# Altium schematic symbol library NNLightSwitcher.SchLib: 97 symbols (part 2 of 3)
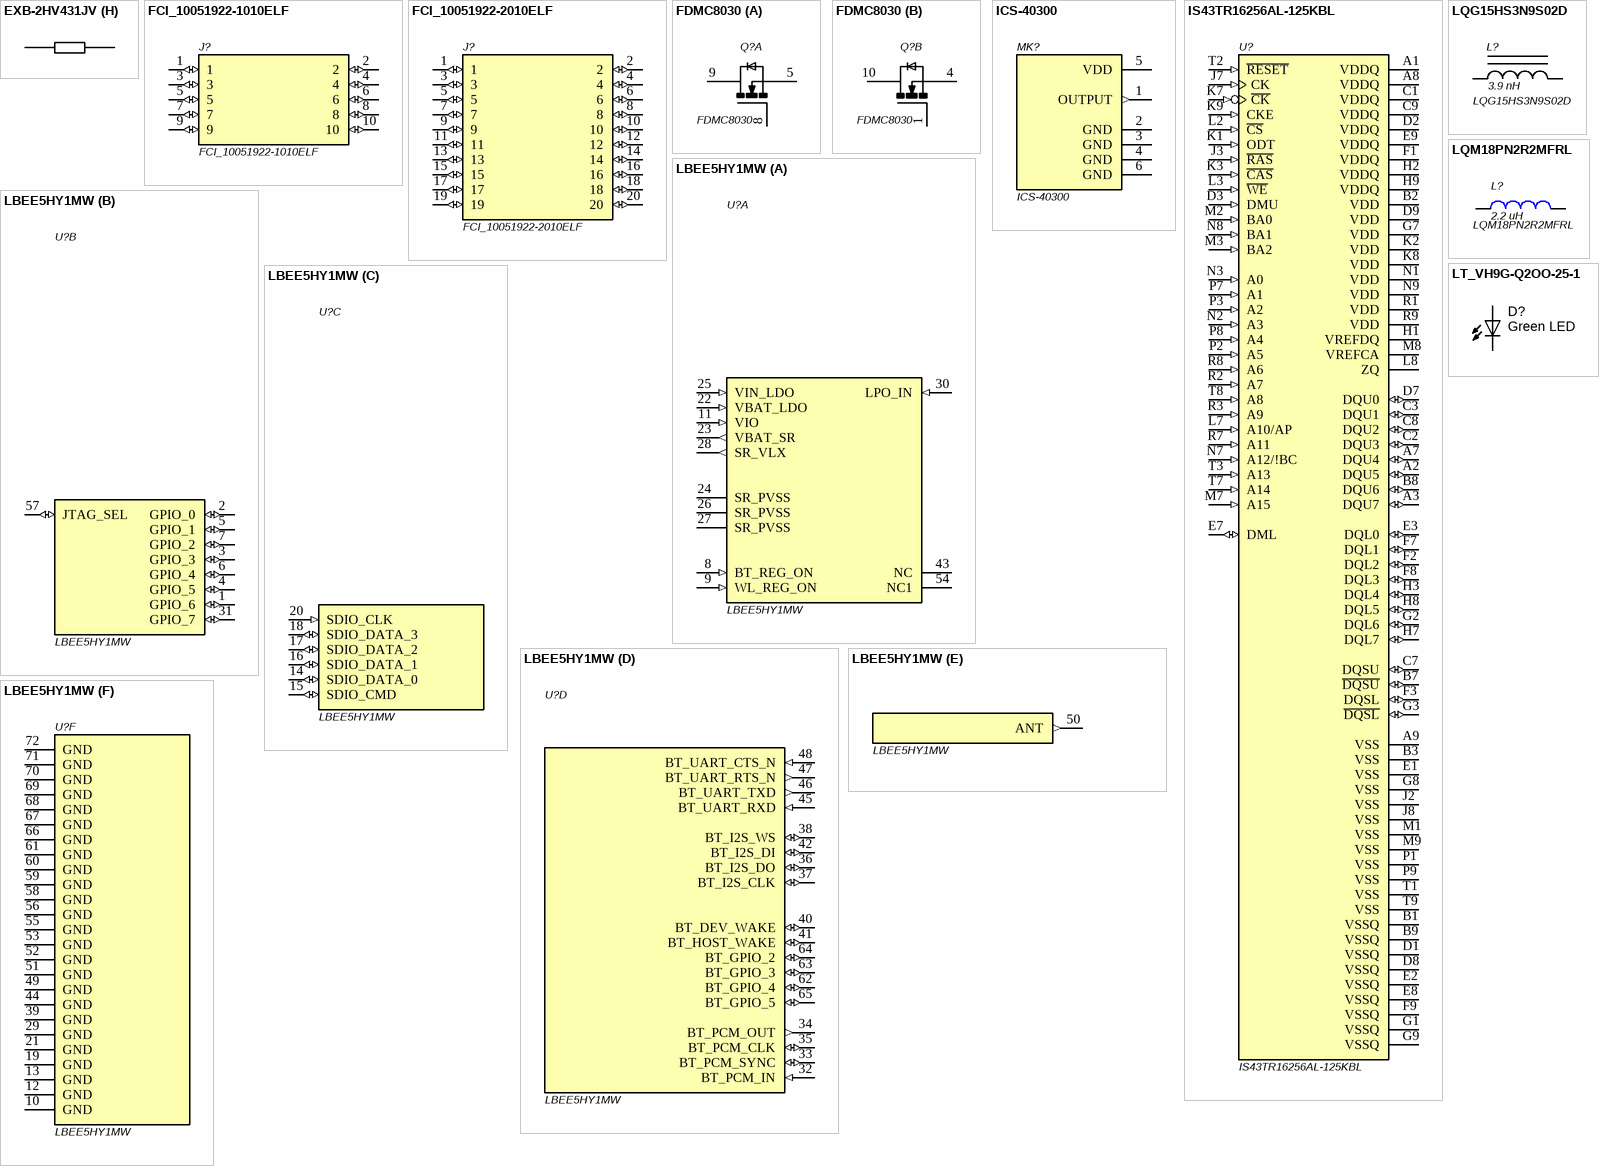
[diagram p5: symbols EXB-2HV431JV to LT_VH9G-Q2OO-25-1]

## ICS-40300
designator MK?
High SPL Analog MEMS Microphone with Extended Low Feq Response; Manufacturer 1: TDK InvenSense; Shape: Rectangular; Direction: Omnidirectional; Impedance: 200R; Operating Supply Current: 250uA; Max Supply Voltage: 3.63V; Min Supply Voltage: 1.5V; Supplier 1: Digi-Key; Manufacturer Part Number 1: ICS-40300; Stock 1: 3930; Pricing 1: 1=3,00000, 10=2,48900, 25=2,29760, 50=2,15880, 100=2,02510, 500=1,73498, 1000=1,71600 (USD); RoHS: Yes; Packaging: Tape and Reel; Termination: Solder; Output Type: Analog; Length: 4.72mm; Height: 3.5mm; Width: 3.76mm; Lead Free: Lead Free; ComponentLink1URL: http://43zrtwysvxb2gf29r5o0athu.wpengine.netdna-cdn.com/wp-content/uploads/2015/02/DS-ICS-40300-00-v1.1.pdf?src-supplier=Avnet+Asia; ComponentLink1Description: http://43zrtwysvxb2gf29r5o0athu.wpengine.netdna-cdn.com/wp-content/uploads/2015/02/DS-ICS-40300-00-v1.1.pdf?src-supplier=Avnet+Asia; ComponentLink2URL: https://www.invensense.com/wp-content/uploads/2015/02/DS-ICS-40300-00-v1.1.pdf?src-supplier=Digi-Key; ComponentLink2Description: https://www.invensense.com/wp-content/uploads/2015/02/DS-ICS-40300-00-v1.1.pdf?src-supplier=Digi-Key; Supplier Part Number 1: 1428-1027-1-ND
footprint *MIC_ICS-40300
pins: 1 OUTPUT (out), 2 GND (power), 3 GND (power), 4 GND (power), 5 VDD (power), 6 GND (power)

## IS43TR16256AL-125KBL
designator U?
4G, 1.35V, DDR3L, 256Mx16, 1600MT/s @ 11-11-11, 96 ball BGA _9mm x13mm_ RoHS; Manufacturer 1: ISSI; Max Frequency: 800MHz; Max Supply Voltage: 1.45V; Min Supply Voltage: 1.283V; Interface: Parallel; Memory Type: RAM,DDR3 SDRAM; Data Bus Width: 16b; Memory Size: 4Gb; Access Time: 255ps; Supplier 1: Digi-Key; Manufacturer Part Number 1: IS43TR16256AL-125KBL; Stock 1: 6597; Pricing 1: 1=8,90000, 10=8,18800, 25=8,01840, 50=7,99000, 190=7,16784, 380=6,95047, 570=6,61028, 1140=6,37875 (USD); RoHS: Yes; Case/Package: TFBGA; Number of Pins: 96; Min Operating Temperature: 0°C; Max Operating Temperature: 70°C; Package Quantity: 190; Packaging: Tray; Frequency: 800MHz; ComponentLink1URL: https://datasheet.ciiva.com/18617/43-46tr16256a-85120al-18617927.pdf?src-supplier=Digi-Key; ComponentLink1Description: https://datasheet.ciiva.com/18617/43-46tr16256a-85120al-18617927.pdf?src-supplier=Digi-Key; Supplier 2: Mouser; Manufacturer 2: ISSI; Manufacturer Part Number 2: IS43TR16256AL-125KBL; Stock 2: 3561; Pricing 2: 1=8,90000, 10=8,19000, 25=8,00000, 50=8,00000, 100=7,17000, 250=6,96000, 500=6,61000, 1000=6,61000, 10000=6,61000 (USD); Supplier Part Number 1: 706-1207-ND; Supplier Part Number 2: 870-43T16256AL125KBL
footprint *BGA96C80P9X16_900X1300X120_IS43TR16256AL-125KBL(Primary)
pins: A1 VDDQ (power), A2 DQU5 (io), A3 DQU7 (io), A7 DQU4 (io), A8 VDDQ (power), A9 VSS (power), B1 VSSQ (power), B2 VDD (power), B3 VSS (power), B7 ~{DQSU} (io), B8 DQU6 (io), B9 VSSQ (power), C1 VDDQ (power), C2 DQU3 (io), C3 DQU1 (io), C7 DQSU (io), C8 DQU2 (io), C9 VDDQ (power), D1 VSSQ (power), D2 VDDQ (power), D3 DMU (in), D7 DQU0 (io), D8 VSSQ (power), D9 VDD (power), E1 VSS (power), E2 VSSQ (power), E3 DQL0 (io), E7 DML (io), E8 VSSQ (power), E9 VDDQ (power), F1 VDDQ (power), F2 DQL2 (io), F3 DQSL (io), F7 DQL1 (io), F8 DQL3 (io), F9 VSSQ (power), G1 VSSQ (power), G2 DQL6 (io), G3 ~{DQSL} (io), G7 VDD (power), G8 VSS (power), G9 VSSQ (power), H1 VREFDQ (power), H2 VDDQ (power), H3 DQL4 (io), H7 DQL7 (io), H8 DQL5 (io), H9 VDDQ (power), J2 VSS (power), J3 ~{RAS} (in), J7 CK (in), J8 VSS (power), K1 ODT (in), K2 VDD (power), K3 ~{CAS} (in), K7 ~{CK} (in), K8 VDD (power), K9 CKE (in), L2 ~{CS} (in), L3 ~{WE} (in), L7 A10/AP (in), L8 ZQ (power), M1 VSS (power), M2 BA0 (in), M3 BA2 (in), M7 A15 (in), M8 VREFCA (power), M9 VSS (power), N1 VDD (power), N2 A3 (in), N3 A0 (in), N7 A12/!BC (in), N8 BA1 (in), N9 VDD (power), P1 VSS (power), P2 A5 (in), P3 A2 (in), P7 A1 (in), P8 A4 (in), P9 VSS (power), R1 VDD (power), R2 A7 (in), R3 A9 (in), R7 A11 (in), R8 A6 (in), R9 VDD (power), T1 VSS (power), T2 ~{RESET} (in), T3 A13 (in), T7 A14 (in), T8 A8 (in), T9 VSS (power)

## LBEE5HY1MW
designator U?
Dual Band WiFi 11a/b/g/n/ac with Bluetooth 5.0 Module; Manufacturer 1: Murata; Manufacturer Part Number 1: LBEE5HY1MW-230; Supplier 1: Digi-Key; Stock 1: 946; Pricing 1: 1=15,66000, 10=14,16500, 25=13,04640, 100=11,92800, 250=11,18252, 500=10,43700, 1000=9,91515 (USD); RoHS: No; Supplier 2: Mouser; Manufacturer 2: Murata; Manufacturer Part Number 2: LBEE5HY1MW-230; Stock 2: 212; Pricing 2: 1=15,62000, 10=14,20000, 25=13,14000, 50=13,14000, 100=12,43000, 250=10,65000, 1000=10,65000, 10000=10,65000 (USD); Supplier Part Number 1: 490-18383-1-ND; Supplier Part Number 2: 81-LBEH5HY1MW-230
footprint 1MW LGA
part A pins: 8 BT_REG_ON (in), 9 WL_REG_ON (in), 11 VIO (in), 22 VBAT_LDO (in), 23 VBAT_SR (out), 24 SR_PVSS, 25 VIN_LDO (in), 26 SR_PVSS, 27 SR_PVSS, 28 SR_VLX (out), 30 LPO_IN (in), 43 NC, 54 NC1
part B pins: 1 GPIO_6 (io), 2 GPIO_0 (io), 3 GPIO_3 (io), 4 GPIO_5 (io), 5 GPIO_1 (io), 6 GPIO_4 (io), 7 GPIO_2 (io), 31 GPIO_7 (io), 57 JTAG_SEL (io)
part C pins: 14 SDIO_DATA_0 (io), 15 SDIO_CMD (io), 16 SDIO_DATA_1 (io), 17 SDIO_DATA_2 (io), 18 SDIO_DATA_3 (io), 20 SDIO_CLK (in)
part D pins: 32 BT_PCM_IN (in), 33 BT_PCM_SYNC (io), 34 BT_PCM_OUT (out), 35 BT_PCM_CLK (io), 36 BT_I2S_DO (io), 37 BT_I2S_CLK (io), 38 BT_I2S_WS (io), 40 BT_DEV_WAKE (io), 41 BT_HOST_WAKE (io), 42 BT_I2S_DI (io), 45 BT_UART_RXD (in), 46 BT_UART_TXD (out), 47 BT_UART_RTS_N (out), 48 BT_UART_CTS_N (in), 62 BT_GPIO_4 (io), 63 BT_GPIO_3 (io), 64 BT_GPIO_2 (io), 65 BT_GPIO_5 (io)
part E pins: 50 ANT (out)
part F pins: 10 GND, 12 GND, 13 GND, 19 GND, 21 GND, 29 GND, 39 GND, 44 GND, 49 GND, 51 GND, 52 GND, 53 GND, 55 GND, 56 GND, 58 GND, 59 GND, 60 GND, 61 GND, 66 GND, 67 GND, 68 GND, 69 GND, 70 GND, 71 GND, 72 GND

## LQG15HS3N9S02D
designator L?  value 3.9 nH
Inductor, Multilayer, Air Core, 3.9 nH, 0.75 A, 0.14 ohm, SMD; Manufacturer 1: Murata; Current Rating: 300mA; Shielding: Unshielded; Q Factor: 8; Self Resonant Frequency: 6GHz; Inductance: 3.9nH; DC Resistance (DCR): 180mR; Test Frequency: 100MHz; ComponentLink1Description: Datasheet link; ComponentLink1URL: https://search.murata.co.jp/Ceramy/image/img/P02/JELF243B-0010.pdf; Supplier 1: Digi-Key; Manufacturer Part Number 1: LQG15HS3N9S02D; Stock 1: 48113; Pricing 1: 1=0,10000, 10=0,06100, 100=0,04040, 500=0,03366, 1000=0,02827, 2500=0,02423 (USD); RoHS: Yes; Mount: Surface Mount; Case/Package: 0402; Core Material: Air; Case Code (Metric): 1005; Case Code (Imperial): 0402; Min Operating Temperature: -55°C; Max Operating Temperature: 125°C; Package Quantity: 10000; Packaging: Tape and Reel; Max DC Current: 300mA; Termination: SMD/SMT; DC Current: 300mA; Military Standard: Not; Length: 1mm; Height: 0.5mm; Width: 0.02inch; Height - Seated (Max): 0.022inch; Depth: 0.55mm; Radiation Hardening: No; Lead Free: Lead Free; ComponentLink2URL: https://datasheet.ciiva.com/11799/0900766b8090d685-11799093.pdf?src-supplier=RSComponents; ComponentLink2Description: https://datasheet.ciiva.com/11799/0900766b8090d685-11799093.pdf?src-supplier=RSComponents; ComponentLink3URL: https://datasheet.ciiva.com/1038/l0075s0083lqg15hs-1038128.pdf?src-supplier=Digi-Key; ComponentLink3Description: https://datasheet.ciiva.com/1038/l0075s0083lqg15hs-1038128.pdf?src-supplier=Digi-Key; ComponentLink4URL: https://datasheet.ciiva.com/1038/l0075s0083lqg15hs-1038129.pdf?src-supplier=Digi-Key; ComponentLink4Description: https://datasheet.ciiva.com/1038/l0075s0083lqg15hs-1038129.pdf?src-supplier=Digi-Key; ComponentLink5URL: https://datasheet.ciiva.com/8509/l0075s0083lqg15hs-8509708.pdf?src-supplier=Avnet; ComponentLink5Description: https://datasheet.ciiva.com/8509/l0075s0083lqg15hs-8509708.pdf?src-supplier=Avnet; ComponentLink6URL: https://datasheet.ciiva.com/1038/l0075s0083lqg15hs-1038127.pdf?src-supplier=Digi-Key; ComponentLink6Description: https://datasheet.ciiva.com/1038/l0075s0083lqg15hs-1038127.pdf?src-supplier=Digi-Key; Supplier 2: Mouser; Manufacturer 2: Murata; Manufacturer Part Number 2: LQG15HS3N9S02D; Stock 2: 63763; Pricing 2: 1=0,10000, 10=0,06100, 50=0,06100, 100=0,04000, 500=0,03400, 1000=0,02800, 2500=0,02100, 10000=0,01900, 20000=0,01800, 50000=0,01700 (USD); Supplier Part Number 1: 490-2617-1-ND; Supplier Part Number 2: 81-LQG15HS3N9S02D
footprint *0603
pins: 1, 2

## LQM18PN2R2MFRL
designator L?  value 2.2 uH
Inductor Power Chip Shielded Multi-Layer 2.2uH 20% 1MHz Ferrite 750mA 375mOhm DCR 0603 T/R; Manufacturer 1: Murata; Self Resonant Frequency: 70MHz; DC Resistance (DCR): 375mR; Supplier 1: Digi-Key; Manufacturer Part Number 1: LQM18PN2R2MFRL; Stock 1: 15081; Pricing 1: 1=0,42000, 10=0,37000, 100=0,25430, 500=0,21728, 1000=0,16643 (USD); RoHS: Yes; Mount: Surface Mount; Case/Package: 0603; Weight: 0.000141oz; Core Material: Ferrite; Case Code (Metric): 1608; Case Code (Imperial): 0603; Min Operating Temperature: -40°C; Max Operating Temperature: 85°C; Package Quantity: 4000; Packaging: Tape and Reel; Tolerance: 20%; Current Rating: 750mA; Shielding: Shielded; Inductance: 2.2uH; Test Frequency: 1MHz; DC Current: 750mA; Military Standard: Not; Termination: SMD/SMT; Max DC Current: 750mA; Length: 0.063inch; Height: 0.8mm; Width: 0.031inch; Height - Seated (Max): 0.037inch; Depth: 0.95mm; Lead Free: Lead Free; ComponentLink1URL: https://datasheet.ciiva.com/29691/o05e-29691382.pdf?src-supplier=Digi-Key; ComponentLink1Description: https://datasheet.ciiva.com/29691/o05e-29691382.pdf?src-supplier=Digi-Key; Supplier 2: Mouser; Manufacturer 2: Murata; Manufacturer Part Number 2: LQM18PN2R2MFRL; Stock 2: 12449; Pricing 2: 1=0,42000, 10=0,37000, 50=0,37000, 100=0,25400, 500=0,21700, 1000=0,16600, 4000=0,13700, 8000=0,12500, 10000=0,12500, 24000=0,12100, 48000=0,11500 (USD); Supplier Part Number 1: 490-10764-1-ND; Supplier Part Number 2: 81-LQM18PN2R2MFRL
footprint *0603
pins: 1, 2

## LT_VH9G-Q2OO-25-1
designator D?, comment Green LED
LED Uni-Color Green 525nm 2-Pin Chip 0402_1006Metric_ T/RLT_VH9G-Q2OO-25-1; Manufacturer 1: Osram Opto; Manufacturer Part Number 1: LTVH9G-Q2OO-25-1; Luminous Intensity: 280mcd; Forward Current: 15mA; Forward Voltage: 3.2V; Lens Style: Diffused,Colorless,Rectangular; Test Current: 5mA; Dominant Wavelength: 532nm; Luminous Flux: 0.55lm; Number of Elements: 1; Reverse Voltage: 5V; Supplier 1: Digi-Key; Stock 1: 5742; Pricing 1: 1=0,57000, 10=0,44100, 100=0,28300, 500=0,24334, 1000=0,18788 (USD); RoHS: Yes; Mount: Surface Mount; Case/Package: SMD/SMT; Number of Pins: 2; Color: Green; Min Operating Temperature: -40°C; Max Operating Temperature: 85°C; Packaging: Tape and Reel; Number of LEDs: 1; Length: 1.1mm; Depth: 0.35mm; Radiation Hardening: No; ComponentLink1URL: https://datasheet.ciiva.com/15198/getdatasheetpartid-569583-15198505.pdf?src-supplier=Verical; ComponentLink1Description: https://datasheet.ciiva.com/15198/getdatasheetpartid-569583-15198505.pdf?src-supplier=Verical
footprint *LED_SML-P11UTT86R_SML-P11MTT86(Primary)
pins: A, C

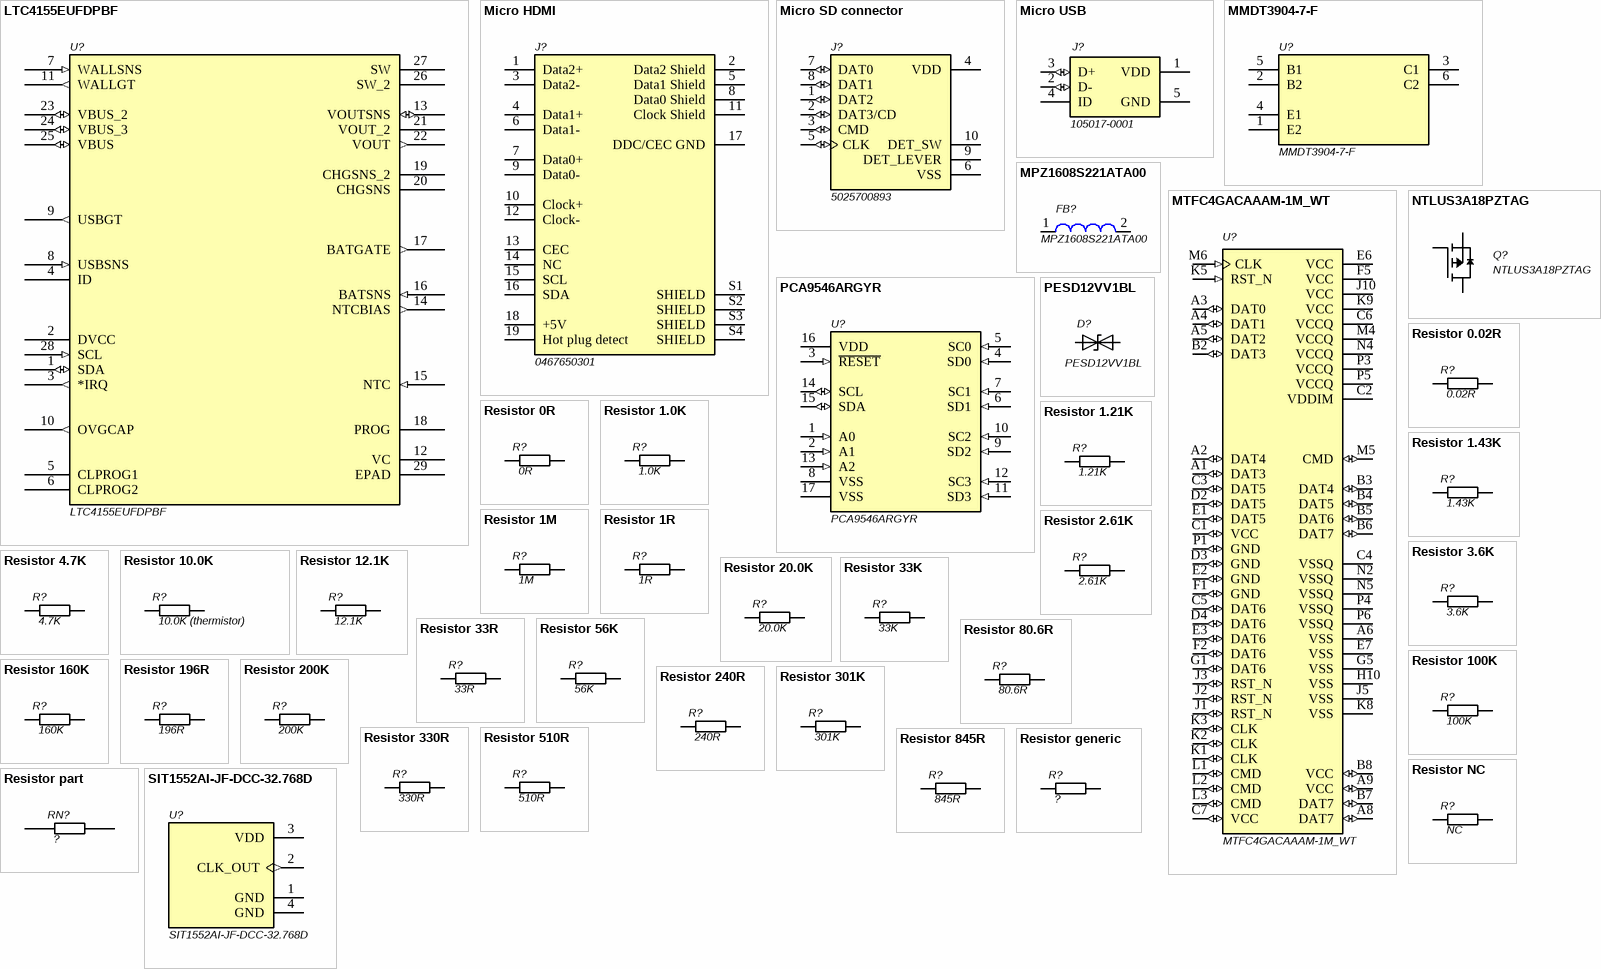
[diagram p2: symbols LTC4155EUFDPBF to SIT1552AI-JF-DCC-32.768D]

## LTC4155EUFDPBF
designator U?
LTC4155 - Dual Input Power Manager/ 3.5A Li-Ion Battery Charger with I2C Control and USB OTG; Manufacturer 1: Analog Devices / Linear Technology; Manufacturer Part Number 1: LTC4155EUFD#PBF; Number of Cells: 1; Output Voltage: 4.35V; Max Supply Voltage: 5.5V; Number of Outputs: 2; Supplier 1: Digi-Key; Stock 1: 2605; Pricing 1: 1=7,14000, 25=4,74080, 100=3,92000, 250=3,72400, 500=3,64000 (USD); RoHS: Yes; Case/Package: QFN; Number of Pins: 28; Min Operating Temperature: -40°C; Max Operating Temperature: 125°C; Min Supply Voltage: 4.35V; Package Quantity: 73; Packaging: Rail/Tube; Max Input Voltage: 5.5V; Min Input Voltage: 4.35V; Max Charge Current: 3.5A; Length: 5mm; Radiation Hardening: No; REACH SVHC: No SVHC; Lead Free: Lead Free; ComponentLink1URL: https://datasheet.ciiva.com/1140/1712322-1140048.pdf?src-supplier=Farnell; ComponentLink1Description: https://datasheet.ciiva.com/1140/1712322-1140048.pdf?src-supplier=Farnell; ComponentLink2URL: https://datasheet.ciiva.com/1145/1563219-1145027.pdf?src-supplier=Newark; ComponentLink2Description: https://datasheet.ciiva.com/1145/1563219-1145027.pdf?src-supplier=Newark; ComponentLink3URL: https://datasheet.ciiva.com/15114/getdatasheetpartid-472825-15114764.pdf?src-supplier=Verical; ComponentLink3Description: https://datasheet.ciiva.com/15114/getdatasheetpartid-472825-15114764.pdf?src-supplier=Verical; ComponentLink4URL: https://datasheet.ciiva.com/1137/1712322-1137501.pdf?src-supplier=Element14; ComponentLink4Description: https://datasheet.ciiva.com/1137/1712322-1137501.pdf?src-supplier=Element14; ComponentLink5URL: https://datasheet.ciiva.com/1934/39952-1934203.pdf?src-supplier=Digi-Key; ComponentLink5Description: https://datasheet.ciiva.com/1934/39952-1934203.pdf?src-supplier=Digi-Key; Supplier Part Number 1: LTC4155EUFD#PBF-ND
footprint *QFN-28_UFD
pins: 1 SDA (io), 2 DVCC (power), 3 *IRQ (out), 4 ID, 5 CLPROG1, 6 CLPROG2, 7 WALLSNS (in), 8 USBSNS (in), 9 USBGT (out), 10 OVGCAP (out), 11 WALLGT (out), 12 VC, 13 VOUTSNS (io), 14 NTCBIAS (out), 15 NTC (in), 16 BATSNS (in), 17 BATGATE (out), 18 PROG, 19 CHGSNS_2, 20 CHGSNS, 21 VOUT_2, 22 VOUT (out), 23 VBUS_2 (io), 24 VBUS_3 (io), 25 VBUS (io), 26 SW_2, 27 SW, 28 SCL (in), 29 EPAD

## Micro HDMI
designator J?, comment 0467650301
Conn Micro HDMI RCP 19 POS 0.4mm Solder RA SMD 19 Terminal 1 Port Micro HDMI Embossed T/R; Manufacturer 1: Molex; Manufacturer Part Number 1: 46765-0301; Number of Contacts: 19; Gender: Receptacle; Number of Ports: 1; Supplier 1: Mouser; Stock 1: 3234; Pricing 1: 1=1,66000, 10=1,56000, 25=1,49000, 50=1,42000, 100=1,29000, 250=1,19000, 500=1,02000, 1000=0,94500, 2000=0,89800, 10000=0,89800 (USD); RoHS: Yes; Mount: Surface Mount,Horizontal; Contact Material: Copper Alloy; Contact Plating: Gold; Number of Terminals: 19; Housing Material: Thermoplastic; Packaging: Tape and Reel; Package Quantity: 4000; Connector Type: HDMI; Termination: Solder; Orientation: Right Angle; Features: Shielded; Length: 6.5mm; Pitch: 0.4mm; Depth: 7.5mm; Radiation Hardening: No; ComponentLink1URL: https://datasheet.ciiva.com/6731/467651001-sd-6731010.pdf?src-supplier=Digi-Key; ComponentLink1Description: https://datasheet.ciiva.com/6731/467651001-sd-6731010.pdf?src-supplier=Digi-Key; ComponentLink2URL: https://datasheet.ciiva.com/10945/0467650301-io-connectors-10945240.pdf?src-supplier=Avnet; ComponentLink2Description: https://datasheet.ciiva.com/10945/0467650301-io-connectors-10945240.pdf?src-supplier=Avnet; Supplier Part Number 1: 538-46765-0301
footprint MOLEX_0467650301_0467650301(Primary)
pins: 1 Data2+, 2 Data2 Shield, 3 Data2-, 4 Data1+, 5 Data1 Shield, 6 Data1-, 7 Data0+, 8 Data0 Shield, 9 Data0-, 10 Clock+, 11 Clock Shield, 12 Clock-, 13 CEC, 14 NC, 15 SCL, 16 SDA, 17 DDC/CEC GND, 18 +5V, 19 Hot plug detect, S1 SHIELD, S2 SHIELD, S3 SHIELD, S4 SHIELD

## Micro SD connector
designator J?, comment 5025700893
1.10mm Pitch microSD Memory Card Connector%2C Normal Mount Surface Mount%2C Push-Push Type; Manufacturer 1: Molex; Current Rating: 500mA; Voltage Rating (AC): 10V; Max Voltage Rating (DC): 1.01kV; Gender: Female; Number of Contacts: 8; Pitch: 1.1mm; Value: 5025700893; Supplier 1: Digi-Key; Manufacturer Part Number 1: 5025700893; Stock 1: 14343; Pricing 1: 1=3,97000, 10=3,81200, 25=3,49440, 50=3,33560, 100=3,17680, 250=2,77972, 500=2,70028 (USD); RoHS: Yes; Mount: Surface Mount,Standard; Contact Material: Copper Alloy,Copper; Contact Plating: Gold; Housing Material: Polymer; Min Operating Temperature: -25°C; Max Operating Temperature: 85°C; Packaging: Tape and Reel; Number of Rows: 1; Package Quantity: 1; Connector Type: Connector; Termination: SMD/SMT; Orientation: Right Angle; Number of Circuits: 8; Length: 13.8mm; Height: 1.8mm; Width: 1.8mm; Depth: 15.5mm; Radiation Hardening: No; REACH SVHC: Unknown; Halogen Free: Low Halogen; Lead Free: Lead Free; ComponentLink1URL: https://datasheet.ciiva.com/684/5025700893-sd-684306.pdf?src-supplier=Digi-Key; ComponentLink1Description: https://datasheet.ciiva.com/684/5025700893-sd-684306.pdf?src-supplier=Digi-Key; ComponentLink2URL: https://datasheet.ciiva.com/4581/5025700893-memory-card-socket-179363-4581107.pdf?src-supplier=Mouser; ComponentLink2Description: https://datasheet.ciiva.com/4581/5025700893-memory-card-socket-179363-4581107.pdf?src-supplier=Mouser; ComponentLink3URL: https://datasheet.ciiva.com/16547/5025700893-memory-card-socket-16547219.pdf?src-supplier=Avnet+Europe; ComponentLink3Description: https://datasheet.ciiva.com/16547/5025700893-memory-card-socket-16547219.pdf?src-supplier=Avnet+Europe; ComponentLink4URL: https://datasheet.ciiva.com/1105/1630840-1105304.pdf?src-supplier=Element14; ComponentLink4Description: https://datasheet.ciiva.com/1105/1630840-1105304.pdf?src-supplier=Element14; ComponentLink5URL: https://datasheet.ciiva.com/11755/0900766b80f7529e-11755048.pdf?src-supplier=RSComponents; ComponentLink5Description: https://datasheet.ciiva.com/11755/0900766b80f7529e-11755048.pdf?src-supplier=RSComponents; ComponentLink6URL: https://datasheet.ciiva.com/15174/getdatasheetpartid-321553-15174794.pdf?src-supplier=Verical; ComponentLink6Description: https://datasheet.ciiva.com/15174/getdatasheetpartid-321553-15174794.pdf?src-supplier=Verical; ComponentLink7URL: https://datasheet.ciiva.com/1104/ps-502570-001-1104669.pdf?src-supplier=Element14; ComponentLink7Description: https://datasheet.ciiva.com/1104/ps-502570-001-1104669.pdf?src-supplier=Element14; ComponentLink8URL: https://datasheet.ciiva.com/684/5025700893-sd-684307.pdf?src-supplier=Digi-Key; ComponentLink8Description: https://datasheet.ciiva.com/684/5025700893-sd-684307.pdf?src-supplier=Digi-Key; ComponentLink9URL: https://datasheet.ciiva.com/684/5025700893-sd-684308.pdf?src-supplier=Digi-Key; ComponentLink9Description: https://datasheet.ciiva.com/684/5025700893-sd-684308.pdf?src-supplier=Digi-Key; ComponentLink10URL: https://datasheet.ciiva.com/16469/5025700893-memory-card-socket-16469082.pdf?src-supplier=Avnet+Asia; ComponentLink10Description: https://datasheet.ciiva.com/16469/5025700893-memory-card-socket-16469082.pdf?src-supplier=Avnet+Asia; ComponentLink11URL: https://datasheet.ciiva.com/3121/5025700893-memory-card-socket-3121179.pdf?src-supplier=Avnet; ComponentLink11Description: https://datasheet.ciiva.com/3121/5025700893-memory-card-socket-3121179.pdf?src-supplier=Avnet; Supplier Part Number 1: WM19093CT-ND
footprint MOLEX_5025700893
pins: 1 DAT2 (io), 2 DAT3/CD (io), 3 CMD (io), 4 VDD (power), 5 CLK (io), 6 VSS (power), 7 DAT0 (io), 8 DAT1 (io), 9 DET_LEVER, 10 DET_SW

## Micro USB
designator J?, comment 105017-0001
Conn USB Type B M 5 POS 0.65mm Solder RA Thru-Hole 5 Terminal 1 Port Embossed T/R; Manufacturer Part Number 1: 1050170001; MF: Molex; Gender: Receptacle; Current Rating: 1.8A; Voltage Rating (AC): 30V; Connector Type: USB,Receptacle; Number of Ports: 1; Number of Contacts: 5; USB Standard: USB 2.0; Mating Cycles: 10000; Shielding: Shielded; Package: None; MP: 105017-0001; Availability: Good; Price: 0.50 USD; Value: *; Supplier 1: Mouser; Manufacturer 1: Molex; Stock 1: 26919; Pricing 1: 1=0,78000, 10=0,70100, 50=0,70100, 100=0,60000, 250=0,54300, 500=0,50000, 1000=0,42900, 2000=0,41500, 10000=0,41500 (USD); RoHS: Yes; Mount: Surface Mount,Through Hole; Contact Plating: Gold; Contact Material: Copper Alloy,Copper; Number of Terminals: 5; Housing Material: Polymer; Insulation Color: Black; Min Operating Temperature: -30°C; Max Operating Temperature: 85°C; Packaging: Tape and Reel; Package Quantity: 2000; Termination: Solder; Max Voltage Rating (AC): 30V; Voltage Rating: 30V; Number of Positions: 5; Orientation: Right Angle; Number of Circuits: 5; Features: Shielded; Length: 8.2mm; Pitch: 0.65mm; Depth: 7.5mm; Radiation Hardening: No; REACH SVHC: Unknown; Halogen Free: Low Halogen; Flammability Rating: UL94 V-0; ComponentLink1URL: https://datasheet.ciiva.com/851/1050170001-sd-851276.pdf?src-supplier=Digi-Key; ComponentLink1Description: https://datasheet.ciiva.com/851/1050170001-sd-851276.pdf?src-supplier=Digi-Key; ComponentLink2URL: https://datasheet.ciiva.com/5742/1598502-5742508.pdf?src-supplier=Farnell; ComponentLink2Description: https://datasheet.ciiva.com/5742/1598502-5742508.pdf?src-supplier=Farnell; ComponentLink3URL: https://datasheet.ciiva.com/3094/1050170001-io-connectors-3094416.pdf?src-supplier=Avnet; ComponentLink3Description: https://datasheet.ciiva.com/3094/1050170001-io-connectors-3094416.pdf?src-supplier=Avnet; ComponentLink4URL: https://datasheet.ciiva.com/4598/1050170001-io-connectors-152207-4598759.pdf?src-supplier=Mouser; ComponentLink4Description: https://datasheet.ciiva.com/4598/1050170001-io-connectors-152207-4598759.pdf?src-supplier=Mouser; ComponentLink5URL: https://datasheet.ciiva.com/8015/1631959-8015288.pdf?src-supplier=Element14; ComponentLink5Description: https://datasheet.ciiva.com/8015/1631959-8015288.pdf?src-supplier=Element14; ComponentLink6URL: https://datasheet.ciiva.com/22654/1688140-22654924.pdf?src-supplier=Element14; ComponentLink6Description: https://datasheet.ciiva.com/22654/1688140-22654924.pdf?src-supplier=Element14; ComponentLink7URL: https://datasheet.ciiva.com/30165/235271050170001-io-nectors-30165183.pdf?src-supplier=Onlinecomponents.com; ComponentLink7Description: https://datasheet.ciiva.com/30165/235271050170001-io-nectors-30165183.pdf?src-supplier=Onlinecomponents.com; ComponentLink8URL: https://datasheet.ciiva.com/851/1050170001-sd-851277.pdf?src-supplier=Digi-Key; ComponentLink8Description: https://datasheet.ciiva.com/851/1050170001-sd-851277.pdf?src-supplier=Digi-Key; ComponentLink9URL: https://datasheet.ciiva.com/16668/1050170001-io-connectors-16668598.pdf?src-supplier=Avnet+Europe; ComponentLink9Description: https://datasheet.ciiva.com/16668/1050170001-io-connectors-16668598.pdf?src-supplier=Avnet+Europe; ComponentLink10URL: https://datasheet.ciiva.com/851/1050170001-sd-851278.pdf?src-supplier=Digi-Key; ComponentLink10Description: https://datasheet.ciiva.com/851/1050170001-sd-851278.pdf?src-supplier=Digi-Key; Supplier Part Number 1: 538-105017-0001
footprint MOLEX_105017-0001
pins: 1 VDD (power), 2 D- (io), 3 D+ (io), 4 ID, 5 GND (power)

## MMDT3904-7-F
designator U?
TRANSISTOR, ARRAY, DUAL NPN, 40V, 200mA, SOT-363-6, FULL REEL; Manufacturer 1: Diodes; Max Power Dissipation: 200mW; Collector Base Voltage (VCBO): 60V; hFE Min: 100; Frequency: 300MHz; Number of Elements: 2; Emitter Base Voltage (VEBO): 6V; Collector Emitter Saturation Voltage: 300mV; Turn-On Delay Time: 70ns; Turn-Off Delay Time: 250ns; Supplier 1: Digi-Key; Manufacturer Part Number 1: MMDT3904-7-F; Stock 1: 128767; Pricing 1: 1=0,28000, 10=0,23300, 100=0,12330, 500=0,08112, 1000=0,05516 (USD); RoHS: Yes; Mount: Surface Mount; Case/Package: SOT-363; Number of Pins: 6; Weight: 0.000212oz; Number of Terminals: 6; Min Operating Temperature: -55°C; Max Operating Temperature: 150°C; Collector Emitter Voltage (VCEO): 40V; Max Collector Current: 200mA; Polarity: NPN; Package Quantity: 1; Packaging: Tape and Reel; Transition Frequency: 300MHz; Collector Emitter Breakdown Voltage: 40V; Max Breakdown Voltage: 40V; Continuous Collector Current: 200mA; Power Dissipation: 200mW; Max Frequency: 300MHz; Element Configuration: Dual; Gain Bandwidth Product: 300MHz; Voltage Rating (DC): 40V; Current Rating: 200mA; Length: 2.2mm; Height: 1mm; Width: 1.35mm; Radiation Hardening: No; REACH SVHC: No SVHC; Lead Free: Lead Free; ComponentLink1URL: https://datasheet.ciiva.com/11198/ds30088-11198646.pdf?src-supplier=Avnet; ComponentLink1Description: https://datasheet.ciiva.com/11198/ds30088-11198646.pdf?src-supplier=Avnet; ComponentLink2URL: https://datasheet.ciiva.com/15138/getdatasheetpartid-35717-15138590.pdf?src-supplier=Verical; ComponentLink2Description: https://datasheet.ciiva.com/15138/getdatasheetpartid-35717-15138590.pdf?src-supplier=Verical; ComponentLink3URL: https://datasheet.ciiva.com/34302/1591025-34302607.pdf?src-supplier=Jameco; ComponentLink3Description: https://datasheet.ciiva.com/34302/1591025-34302607.pdf?src-supplier=Jameco; ComponentLink4URL: https://datasheet.ciiva.com/4723/ds30088-4723579.pdf?src-supplier=Mouser; ComponentLink4Description: https://datasheet.ciiva.com/4723/ds30088-4723579.pdf?src-supplier=Mouser; ComponentLink5URL: https://datasheet.ciiva.com/8029/ds30088-8029724.pdf?src-supplier=Element14; ComponentLink5Description: https://datasheet.ciiva.com/8029/ds30088-8029724.pdf?src-supplier=Element14; ComponentLink6URL: https://datasheet.ciiva.com/11207/ds30088-11207885.pdf?src-supplier=Avnet; ComponentLink6Description: https://datasheet.ciiva.com/11207/ds30088-11207885.pdf?src-supplier=Avnet; Supplier 2: Mouser; Manufacturer 2: Diodes; Manufacturer Part Number 2: MMDT3904-7-F; Stock 2: 36237; Pricing 2: 1=0,36000, 10=0,25500, 50=0,25500, 100=0,11800, 1000=0,09000, 3000=0,07700, 9000=0,07000, 10000=0,07000, 24000=0,06600 (USD); Supplier Part Number 1: MMDT3904-FDICT-ND; Supplier Part Number 2: 621-MMDT3904-F
footprint *SOT65P210X110-6N
pins: 1 E2, 2 B2, 3 C1, 4 E1, 5 B1, 6 C2

## MPZ1608S221ATA00
designator FB?
Ferrite Bead Multi-Layer 220Ohm 25% 100MHz Ferrite 2.2A 0603 Punched Paper T/R; Manufacturer 1: TDK; Impedance: 220R; DC Resistance (DCR): 50mR; Supplier 1: Digi-Key; Manufacturer Part Number 1: MPZ1608S221ATA00; Stock 1: 578094; Pricing 1: 1=0,10000, 10=0,07900, 25=0,07160, 50=0,06440, 100=0,04720, 250=0,03432, 500=0,03146, 1000=0,02717 (USD); RoHS: Yes; Mount: Surface Mount; Case/Package: 0603; Number of Pins: 2; Case Code (Metric): 1608; Case Code (Imperial): 0603; Core Material: Ferrite; Current Rating: 2.2A; Packaging: Cut Tape; Tolerance: 25%; Package Quantity: 1; Max DC Current: 2.2A; Length: 0.063inch; Height: 0.037inch; Width: 0.031inch; REACH SVHC: No SVHC; Lead Free: Lead Free; ComponentLink1URL: https://datasheet.ciiva.com/8077/55167-8077073.pdf?src-supplier=Element14; ComponentLink1Description: https://datasheet.ciiva.com/8077/55167-8077073.pdf?src-supplier=Element14; ComponentLink2URL: https://datasheet.ciiva.com/46366/print-detail-pdf-phplangenpart-nompz1608s221ata00nreimp-unit-xmhz-46366044.pdf?src-supplier=Onlinecomponents.com; ComponentLink2Description: https://datasheet.ciiva.com/46366/print-detail-pdf-phplangenpart-nompz1608s221ata00nreimp-unit-xmhz-46366044.pdf?src-supplier=Onlinecomponents.com; ComponentLink3URL: https://datasheet.ciiva.com/46381/1486324-46381628.pdf?src-supplier=Element14; ComponentLink3Description: https://datasheet.ciiva.com/46381/1486324-46381628.pdf?src-supplier=Element14; ComponentLink4URL: https://datasheet.ciiva.com/8077/55167-8077071.pdf?src-supplier=Element14; ComponentLink4Description: https://datasheet.ciiva.com/8077/55167-8077071.pdf?src-supplier=Element14; Supplier 2: Mouser; Manufacturer 2: TDK; Manufacturer Part Number 2: MPZ1608S221ATA00; Stock 2: 146793; Pricing 2: 1=0,10000, 10=0,07800, 50=0,07800, 100=0,04700, 500=0,03100, 1000=0,02700, 4000=0,02000, 10000=0,02000 (USD); Supplier Part Number 1: 445-1565-1-ND; Supplier Part Number 2: 810-MPZ1608S221ATA00
footprint *0603
pins: 1, 2

## MTFC4GACAAAM-1M_WT
designator U?
J54A eMMC 32G ECCN: 3A991 / HTS: 8542.32.0070; Manufacturer 1: Micron Technology; Manufacturer Part Number 1: MTFC4GACAJCN-4MITTR; Supplier 1: Mouser; Stock 1: 4219; Pricing 1: 1=10,20000, 10=9,40000, 25=9,21000, 50=9,16000, 100=8,23000, 250=7,98000, 500=7,58000, 1000=6,66000, 2000=6,17000, 10000=6,66000 (USD); RoHS: No; Supplier Part Number 1: 340-294892-REEL
footprint *BGA153N50P14X14_1150X1300X100_MTFC4GACAAAM-1M_WT(Primary)
pins: A1 DAT3 (io), A2 DAT4 (io), A3 DAT0 (io), A4 DAT1 (io), A5 DAT2 (io), A6 VSS (power), A8 DAT7 (io), A9 VCC (io), B2 DAT3 (io), B3 DAT4 (io), B4 DAT5 (io), B5 DAT6 (io), B6 DAT7 (io), B7 DAT7 (io), B8 VCC (io), C1 VCC (io), C2 VDDIM (power), C3 DAT5 (io), C4 VSSQ (power), C5 DAT6 (io), C6 VCCQ (power), C7 VCC (io), D2 DAT5 (io), D3 GND (io), D4 DAT6 (io), E1 DAT5 (io), E2 GND (io), E3 DAT6 (io), E6 VCC (power), E7 VSS (power), F1 GND (io), F2 DAT6 (io), F5 VCC (power), G1 DAT6 (io), G5 VSS (power), H10 VSS (power), J1 RST_N (io), J2 RST_N (io), J3 RST_N (io), J5 VSS (power), J10 VCC (power), K1 CLK (io), K2 CLK (io), K3 CLK (io), K5 RST_N (in), K8 VSS (power), K9 VCC (power), L1 CMD (io), L2 CMD (io), L3 CMD (io), M4 VCCQ (power), M5 CMD (io), M6 CLK (in), N2 VSSQ (power), N4 VCCQ (power), N5 VSSQ (power), P1 GND (io), P3 VCCQ (power), P4 VSSQ (power), P5 VCCQ (power), P6 VSSQ (power)

## NTLUS3A18PZTAG
designator Q?
Power MOSFET -20V -8.2A 18 mOhm Single P-Channel UDFN6 with ESD Protection; Manufacturer 1: ON Semiconductor; Input Capacitance: 2.24nF; Max Power Dissipation: 700mW; Number of Elements: 1; Rise Time: 15ns; Rds On Max: 18mR; Drain to Source Voltage (Vdss): 20V; Continuous Drain Current (ID): 8.2A; Drain to Source Resistance: 90mR; Power Dissipation: 1.7W; Turn-On Delay Time: 8.6ns; Turn-Off Delay Time: 150ns; Fall Time: 88ns; Gate to Source Voltage (Vgs): 8V; Supplier 1: Digi-Key; Manufacturer Part Number 1: NTLUS3A18PZTAG; Stock 1: 1739; Pricing 1: 1=0,61000, 10=0,53500, 100=0,41040, 500=0,32446, 1000=0,25956 (USD); RoHS: Yes; Number of Pins: 6; Contact Plating: Tin,Matte; Min Operating Temperature: -55°C; Max Operating Temperature: 150°C; Package Quantity: 3000; Packaging: Tape and Reel; Element Configuration: Single; Drain to Source Breakdown Voltage: -20V; Length: 2mm; Height: 0.5mm; Width: 2mm; Radiation Hardening: No; Lead Free: Lead Free; ComponentLink1URL: https://datasheet.ciiva.com/13052/ntlus3a18pz-d-89517-13052585.pdf?src-supplier=Mouser; ComponentLink1Description: https://datasheet.ciiva.com/13052/ntlus3a18pz-d-89517-13052585.pdf?src-supplier=Mouser; ComponentLink2URL: https://datasheet.ciiva.com/11166/ntlus3a18pz-d-11166499.pdf?src-supplier=Avnet; ComponentLink2Description: https://datasheet.ciiva.com/11166/ntlus3a18pz-d-11166499.pdf?src-supplier=Avnet; ComponentLink3URL: https://datasheet.ciiva.com/6374/ntlus3a18pz-d-6374085.pdf?src-supplier=Digi-Key; ComponentLink3Description: https://datasheet.ciiva.com/6374/ntlus3a18pz-d-6374085.pdf?src-supplier=Digi-Key; ComponentLink4URL: https://datasheet.ciiva.com/30480/0900766b81267308-30480122.pdf?src-supplier=RSComponents; ComponentLink4Description: https://datasheet.ciiva.com/30480/0900766b81267308-30480122.pdf?src-supplier=RSComponents; Supplier 2: Mouser; Manufacturer 2: ON Semiconductor; Manufacturer Part Number 2: NTLUS3A18PZTAG; Stock 2: 5542; Pricing 2: 1=0,56000, 10=0,46500, 50=0,46500, 100=0,30000, 1000=0,24000, 10000=0,19600 (USD); Supplier Part Number 1: NTLUS3A18PZTAGOSCT-ND; Supplier Part Number 2: 863-NTLUS3A18PZTAG
footprint *TRANS_NTLUS3A18PZTAG
pins: 1 D, 2 D, 3 G, 4 S, 5 D, 6 D, 7 D, 8 S

## PCA9546ARGYR
designator U?
PCA9546 Series 4-Channel I2C-Bus Switch w/ Interrupt Logic and Rst; Manufacturer 1: Texas Instruments; Logic Function: Multiplexer; Min Supply Voltage: 2.3V; Max Supply Voltage: 5.5V; Number of Inputs: 4; Number of Outputs: 1; Bandwidth: 400kHz; Propagation Delay: 1ns; Interface: I2C,SMBus; On-State Resistance: 45R; Power Dissipation: 400mW; Operating Supply Current: 3uA; Throw Configuration: 4PST; Supplier 1: Digi-Key; Manufacturer Part Number 1: PCA9546ARGYR; Stock 1: 2313; Pricing 1: 1=1,95000, 10=1,75200, 100=1,40850, 500=1,15720, 1000=0,95883 (USD); RoHS: Yes; Mount: Surface Mount; Case/Package: VQFN; Number of Pins: 16; Weight: 0.001312oz; Min Operating Temperature: -40°C; Max Operating Temperature: 85°C; Packaging: Tape and Reel; Package Quantity: 1; Max Frequency: 400kHz; Max Power Dissipation: 400mW; Number of Channels: 4; Radiation Hardening: No; Lead Free: Lead Free; ComponentLink1URL: https://datasheet.ciiva.com/1784/pca9546a-1784314.pdf?src-supplier=Digi-Key; ComponentLink1Description: https://datasheet.ciiva.com/1784/pca9546a-1784314.pdf?src-supplier=Digi-Key; ComponentLink2URL: https://datasheet.ciiva.com/1784/pca9546a-1784315.pdf?src-supplier=Digi-Key; ComponentLink2Description: https://datasheet.ciiva.com/1784/pca9546a-1784315.pdf?src-supplier=Digi-Key; ComponentLink3URL: https://datasheet.ciiva.com/1784/pca9546a-1784316.pdf?src-supplier=Digi-Key; ComponentLink3Description: https://datasheet.ciiva.com/1784/pca9546a-1784316.pdf?src-supplier=Digi-Key; Supplier 2: Mouser; Manufacturer 2: Texas Instruments; Manufacturer Part Number 2: PCA9546ARGYR; Stock 2: 3494; Pricing 2: 1=1,89000, 10=1,61000, 50=1,61000, 100=1,29000, 500=1,13000, 1000=0,93100, 3000=0,86700, 6000=0,83500, 9000=0,80300, 10000=0,80300 (USD); Supplier Part Number 1: 296-20969-1-ND; Supplier Part Number 2: 595-PCA9546ARGYR
footprint *QFN50P400X350X100-17N(205X255)
pins: 1 A0 (in), 2 A1 (in), 3 ~{RESET} (in), 4 SD0 (in), 5 SC0 (in), 6 SD1 (in), 7 SC1 (in), 8 VSS, 9 SD2 (in), 10 SC2 (in), 11 SD3 (in), 12 SC3 (in), 13 A2 (in), 14 SCL (io), 15 SDA (io), 16 VDD (power), 17 VSS

## PESD12VV1BL
designator D?
ESD Suppressor TVS 30KV; Manufacturer 1: Nexperia; Manufacturer Part Number 1: PESD12VV1BL,315; Supplier 1: Digi-Key; Stock 1: 45449; Pricing 1: 1=0,38000, 10=0,30400, 100=0,20730, 500=0,15548, 1000=0,11661 (USD); RoHS: No; ComponentLink1URL: https://assets.nexperia.com/documents/data-sheet/PESD12VV1BL.pdf?src-supplier=Digi-Key; ComponentLink1Description: https://assets.nexperia.com/documents/data-sheet/PESD12VV1BL.pdf?src-supplier=Digi-Key; Supplier 2: Mouser; Manufacturer 2: Nexperia; Manufacturer Part Number 2: PESD12VV1BL,315; Stock 2: 157674; Pricing 2: 1=0,48000, 10=0,34000, 50=0,34000, 100=0,15600, 1000=0,12000, 2500=0,10200, 10000=0,09300, 20000=0,08700, 50000=0,07800, 100000=0,07500 (USD); Supplier Part Number 1: 1727-1304-1-ND; Supplier Part Number 2: 771-PESD12VV1BL,315
footprint *SOD882(T)
pins: 1 K, 2 A

## Resistor 0.02R
designator R?, comment 0.02R
WSL0603R0200FEA
footprint *0603
pins: 1, 2

## Resistor 0R
designator R?, comment 0R
footprint 0402
pins: 1, 2

## Resistor 1.0K
designator R?, comment 1.0K
footprint 0402
pins: 1, 2

## Resistor 1.21K
designator R?, comment 1.21K
footprint 0402
pins: 1, 2

## Resistor 1.43K
designator R?, comment 1.43K
footprint 0402
pins: 1, 2

## Resistor 1M
designator R?, comment 1M
footprint 0402
pins: 1, 2

## Resistor 1R
designator R?, comment 1R
footprint 0402
pins: 1, 2

## Resistor 2.61K
designator R?, comment 2.61K
footprint 0402
pins: 1, 2

## Resistor 3.6K
designator R?, comment 3.6K
footprint 0402
pins: 1, 2

## Resistor 4.7K
designator R?, comment 4.7K
footprint 0402
pins: 1, 2

## Resistor 10.0K
designator R?, comment 10.0K (thermistor)
thermistor
footprint 0402
pins: 1, 2

## Resistor 12.1K
designator R?, comment 12.1K
footprint 0402
pins: 1, 2

## Resistor 20.0K
designator R?, comment 20.0K
footprint 0402
pins: 1, 2

## Resistor 33K
designator R?, comment 33K
footprint 0402
pins: 1, 2

## Resistor 33R
designator R?, comment 33R
footprint 0402
pins: 1, 2

## Resistor 56K
designator R?, comment 56K
footprint 0402
pins: 1, 2

## Resistor 80.6R
designator R?, comment 80.6R
footprint 0402
pins: 1, 2

## Resistor 100K
designator R?, comment 100K
footprint 0402
pins: 1, 2

## Resistor 160K
designator R?, comment 160K
footprint 0402
pins: 1, 2

## Resistor 196R
designator R?, comment 196R
footprint 0402
pins: 1, 2

## Resistor 200K
designator R?, comment 200K
footprint 0402
pins: 1, 2

## Resistor 240R
designator R?, comment 240R
footprint 0402
pins: 1, 2

## Resistor 301K
designator R?, comment 301K
footprint 0402
pins: 1, 2

## Resistor 330R
designator R?, comment 330R
footprint 0402
pins: 1, 2

## Resistor 510R
designator R?, comment 510R
footprint 0402
pins: 1, 2

## Resistor 845R
designator R?, comment 845R
footprint 0402
pins: 1, 2

## Resistor generic
designator R?, comment ?
footprint 0402
pins: 1, 2

## Resistor NC
designator R?, comment NC
footprint 0402
pins: 1, 2

## Resistor part
designator RN?, comment ?
footprint RES8 part
pins: 1, 2

## SIT1552AI-JF-DCC-32.768D
designator U?
Ultra Small, Ultra-Low Power 32.768 kHz TCXO; Manufacturer 1: SiTime; Frequency Stability: 10ppm; Supplier 1: Digi-Key; Manufacturer Part Number 1: SIT1552AI-JF-DCC-32.768D; Stock 1: 12997; Pricing 1: 1=1,98000, 10=1,88800, 50=1,84400, 100=1,58050, 500=1,53664, 1000=1,29517 (USD); RoHS: Yes; Mount: Surface Mount; Min Operating Temperature: -40°C; Max Operating Temperature: 85°C; Packaging: Tape and Reel; Frequency: 32.768kHz; Length: 0.061inch; Height: 0.024inch; Width: 0.033inch; ComponentLink1URL: https://www.sitime.com/products/datasheets/sit1552/SiT1552-datasheet.pdf?src-supplier=Digi-Key; ComponentLink1Description: https://www.sitime.com/products/datasheets/sit1552/SiT1552-datasheet.pdf?src-supplier=Digi-Key; ComponentLink2URL: https://www.sitime.com/datasheet/SiT1552?src-supplier=Digi-Key; ComponentLink2Description: https://www.sitime.com/datasheet/SiT1552?src-supplier=Digi-Key; Supplier 2: Mouser; Manufacturer 2: SiTime; Manufacturer Part Number 2: SIT1552AI-JF-DCC-32.768D; Stock 2: 2903; Pricing 2: 1=1,85000, 10=1,74000, 50=1,74000, 100=1,49000, 250=1,42000, 500=1,26000, 1000=1,16000, 3000=1,10000, 6000=1,06000, 9000=1,02000, 10000=1,06000 (USD); Supplier Part Number 1: 1473-1242-1-ND; Supplier Part Number 2: 788-1552AIJFDCC32.7D
footprint *BGA4C100X41P2X2_154X84X60N
pins: 1 GND (power), 2 CLK_OUT (out), 3 VDD (power), 4 GND (power)

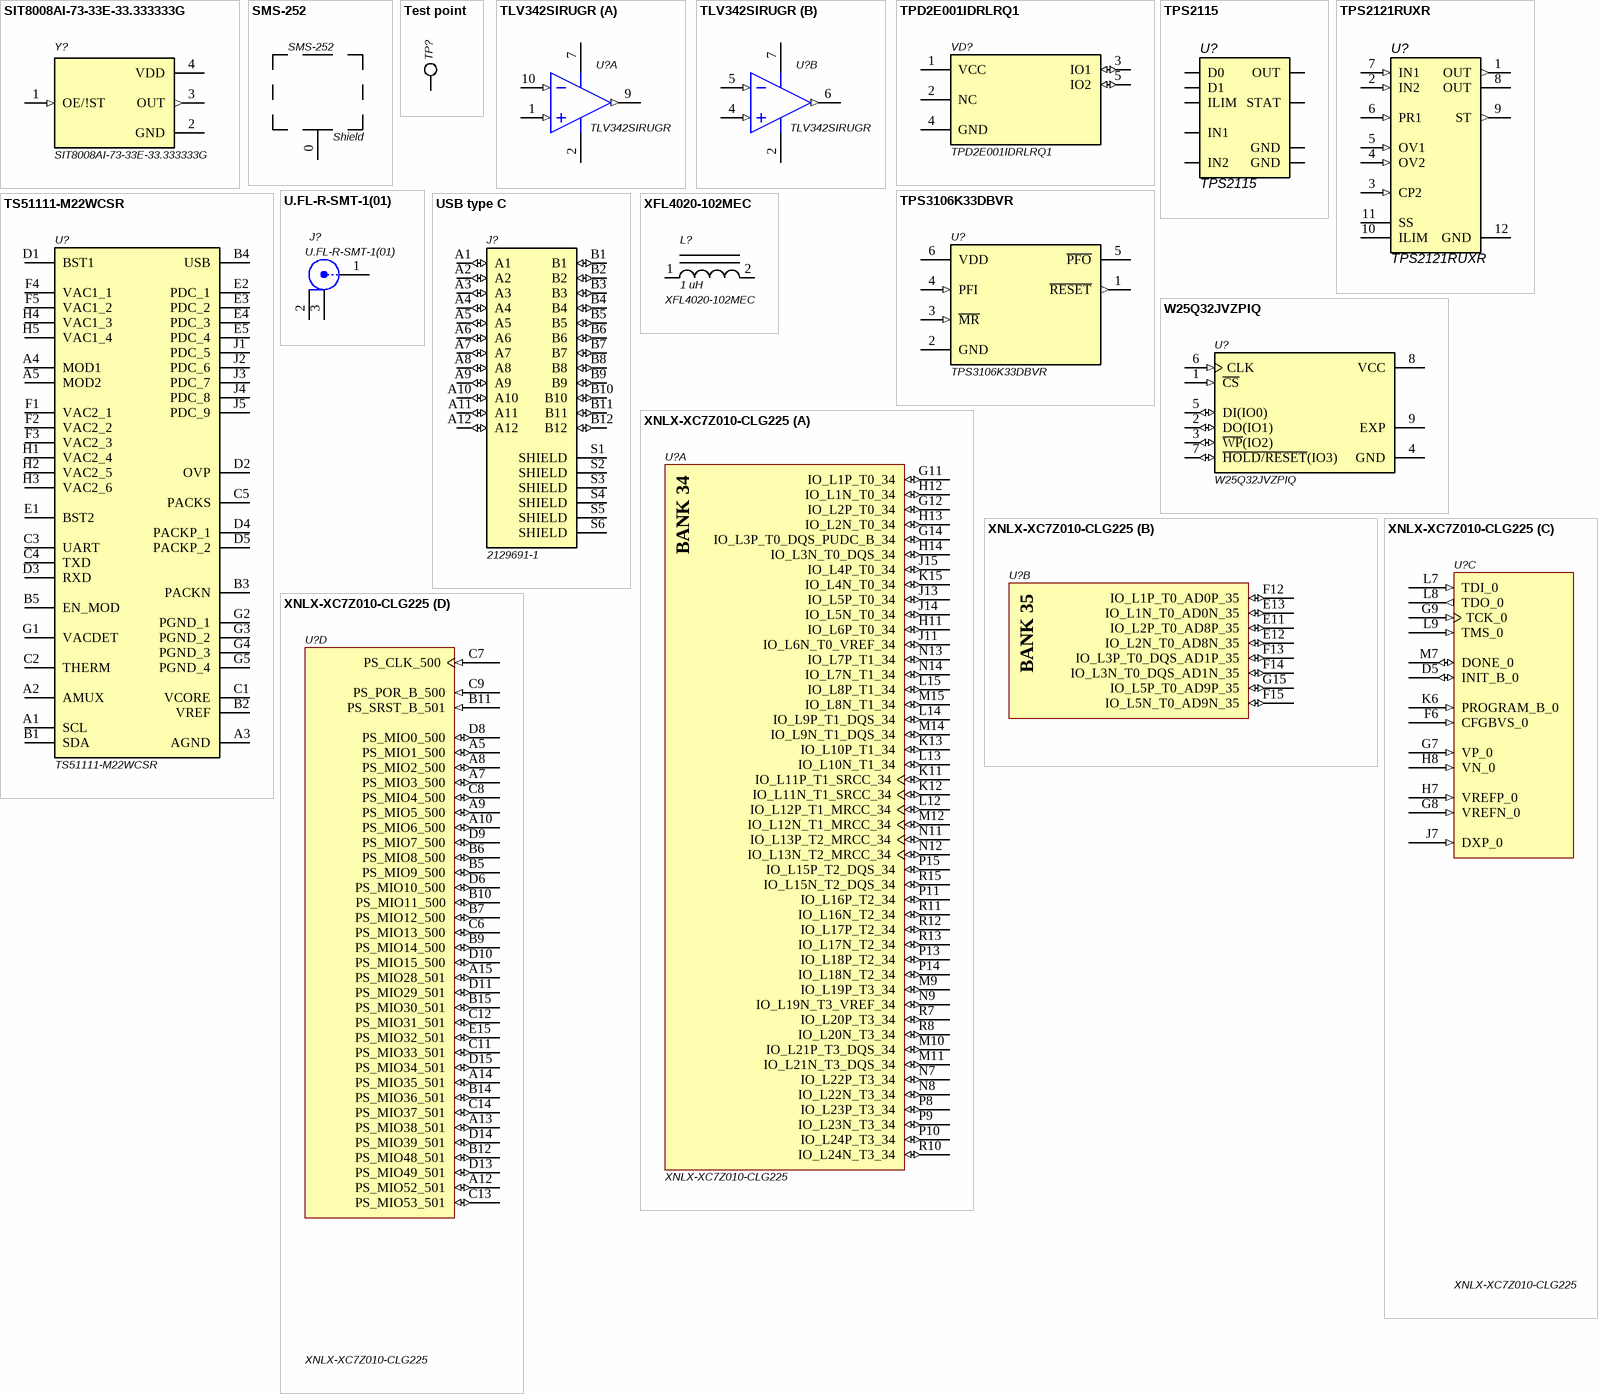
[diagram p3: symbols SIT8008AI-73-33E-33.333333G to XNLX-XC7Z010-CLG225]

## SIT8008AI-73-33E-33.333333G
designator Y?
Mems Osc, 33.333333MHZ, 2X1.6MM, Lvcmos; Manufacturer 1: SiTime; Supplier 1: Digi-Key; Manufacturer Part Number 1: SIT8008AI-73-33E-33.333333G; Stock 1: 47; Pricing 1: 1=1,25000, 10=1,10800 (USD); RoHS: No; ComponentLink1URL: https://media.digikey.com/pdf/Data%20Sheets/SiTime%20PDFs/New_Rev_FAQ.pdf?src-supplier=Digi-Key; ComponentLink1Description: https://media.digikey.com/pdf/Data%20Sheets/SiTime%20PDFs/New_Rev_FAQ.pdf?src-supplier=Digi-Key; Supplier 2: Mouser; Manufacturer 2: SiTime; Manufacturer Part Number 2: SIT8008AI-73-33E-33.333333G; Stock 2: 145; Pricing 2: 1=1,17000, 10=0,97200, 50=0,97200, 100=0,86000, 250=0,81700, 500=0,73100, 1000=0,64500, 2500=0,62300, 5000=0,60200, 10000=0,58100 (USD); Supplier Part Number 1: 1473-30543-1-ND; Supplier Part Number 2: 788-8008AI733E-33.3G
footprint *OSC_SIT8008AI-73-33E-33.333333G
pins: 1 OE/!ST (in), 2 GND (power), 3 OUT (out), 4 VDD (power)

## SMS-252
designator Shield
EMI shield Leader tech SMS-252; ComponentLink1Description: Datasheet URL; ComponentLink1URL: http://www.ethertronics.com/files/6014/0708/4228/Savvi_WLAN__8x3_M830510.pdf; ComponentLink2URL: https://media.digikey.com/pdf/Data%20Sheets/Ethertronics/M830520.pdf?src-supplier=Digi-Key; ComponentLink2Description: https://media.digikey.com/pdf/Data%20Sheets/Ethertronics/M830520.pdf?src-supplier=Digi-Key
footprint shield
pins: 0 Feed

## Test point
designator TP?  (value not drawn)
Test Point, Miniature, SMT; ComponentLink1Description: Datasheet URL; ComponentLink1URL: http://www.keyelco.com/userAssets/store/files/5015.PDF
footprint Testpoint_Keystone_Miniature (Miniature SMT test point)
footprint Connection (Connection with hole)
footprint Testpoint_with_pad (Miniature SMT test point)
pins: 1

## TLV342SIRUGR
designator U?
Low-Voltage, Rail-To-Rail Output CMOS Operational Amplifier with Shutdown, 1.5 to 5.5 V, -40 to 125 degC, 10-pin X2QFN (RUG10), Green (RoHS & no Sb/Br); Manufacturer 1: Texas Instruments; Max Supply Voltage: 5.5V; Min Supply Voltage: 1.5V; Output Current: 115mA; Nominal Supply Current: 300uA; Voltage Gain: 110dB; Common Mode Rejection Ratio: 50dB; Nominal Gain Bandwidth Product: 2.2MHz; Number of Channels: 2; Slew Rate: 0.9V/µs; Max I/O Voltage: 4mV; Gain Bandwidth Product: 2.3MHz; Input Bias Current: 3nA; Operating Supply Current: 75uA; ComponentLink1URL: http://www.ti.com/; ComponentLink1Description: Manufacturer URL; ComponentLink2Description: Datasheet; ComponentLink3URL: http://www.ti.com/litv/pdf/mpqf216a; ComponentLink2URL: http://www.ti.com/lit/ds/symlink/tlv342s.pdf; ComponentLink3Description: Package Specification; Supplier 1: Digi-Key; Manufacturer Part Number 1: TLV342SIRUGR; Stock 1: 21365; Pricing 1: 1=1,13000, 10=1,00600, 100=0,78410, 500=0,64776, 1000=0,51140 (USD); RoHS: Yes; Case/Package: QFN; Number of Pins: 10; Min Operating Temperature: -40°C; Max Operating Temperature: 125°C; Packaging: Tape and Reel; Package Quantity: 3000; Number of Circuits: 2; Input Offset Voltage (Vos): 4mV; Output Current per Channel: 115mA; Unity Gain Bandwidth Product: 2.3MHz; Number of Elements: 2; Bandwidth: 2.2MHz; Radiation Hardening: No; Lead Free: Lead Free; ComponentLink4URL: https://datasheet.ciiva.com/7411/tlv342-7411306.pdf?src-supplier=Newark; ComponentLink4Description: https://datasheet.ciiva.com/7411/tlv342-7411306.pdf?src-supplier=Newark; ComponentLink5URL: https://datasheet.ciiva.com/14458/tlv341-14458822.pdf?src-supplier=Avnet; ComponentLink5Description: https://datasheet.ciiva.com/14458/tlv341-14458822.pdf?src-supplier=Avnet; ComponentLink6URL: https://datasheet.ciiva.com/1797/tlv342-1797900.pdf?src-supplier=Digi-Key; ComponentLink6Description: https://datasheet.ciiva.com/1797/tlv342-1797900.pdf?src-supplier=Digi-Key; ComponentLink7URL: https://datasheet.ciiva.com/1797/tlv342-1797901.pdf?src-supplier=Digi-Key; ComponentLink7Description: https://datasheet.ciiva.com/1797/tlv342-1797901.pdf?src-supplier=Digi-Key; ComponentLink8URL: https://datasheet.ciiva.com/1797/tlv342-1797902.pdf?src-supplier=Digi-Key; ComponentLink8Description: https://datasheet.ciiva.com/1797/tlv342-1797902.pdf?src-supplier=Digi-Key; Supplier 2: Mouser; Manufacturer 2: Texas Instruments; Manufacturer Part Number 2: TLV342SIRUGR; Stock 2: 4400; Pricing 2: 1=1,09000, 10=0,92700, 50=0,92700, 100=0,71200, 500=0,62900, 1000=0,49700, 3000=0,44100, 9000=0,42400, 10000=0,42400 (USD); Supplier Part Number 1: 296-24767-1-ND; Supplier Part Number 2: 595-TLV342SIRUGR
footprint TI-RUG10_V
pins on every part: 2 GND (power), 7 V+ (power)
part A pins: 1 IN1+ (in), 9 OUT1 (out), 10 IN1- (in)
part B pins: 4 IN2+ (in), 5 IN2- (in), 6 OUT2 (out)

## TPD2E001IDRLRQ1
designator VD?
Automotive Catalog Low-Capacitance 2-Channel %2B/-15 kV ESD-Protection Array for High-Speed Data Inter 5-SOT -40 to 85
footprint SOT50P160X60-5N
pins: 1 VCC (power), 2 NC, 3 IO1 (io), 4 GND, 5 IO2 (io)

## TPS2115
designator U?
Dual In/Single Out Autoswitching Power MUX Manual/Auto Switching Adj. Cur Limit Switch Status; Manufacturer 1: Texas Instruments; Manufacturer Part Number 1: TPS2115ADRBR; Number of Inputs: 2; Number of Outputs: 1; Output Current: 1.25A; Max Input Voltage: 5.5V; Min Input Voltage: 2.8V; Turn-On Delay Time: 1ms; Turn-Off Delay Time: 5ms; On-State Resistance: 150mR; Operating Supply Current: 55uA; Max Power Dissipation: 2.5W; Supplier 1: Digi-Key; Stock 1: 11830; Pricing 1: 1=2,01000, 10=1,80100, 100=1,44800, 500=1,18966, 1000=0,98571 (USD); RoHS: Yes; Case/Package: TSSOP; Number of Pins: 8; Weight: 0.000847oz; Min Operating Temperature: -40°C; Max Operating Temperature: 85°C; Packaging: Tape and Reel; Package Quantity: 3000; Max Output Current: 1.25A; Current - Output 2: 1.25A; Operating Supply Voltage: 5.5V; Max Supply Current: 55uA; Radiation Hardening: No; Lead Free: Lead Free; REACH SVHC: No SVHC; ComponentLink1URL: https://datasheet.ciiva.com/15109/getdatasheetpartid-221489-15109265.pdf?src-supplier=Verical; ComponentLink1Description: https://datasheet.ciiva.com/15109/getdatasheetpartid-221489-15109265.pdf?src-supplier=Verical; ComponentLink2URL: https://datasheet.ciiva.com/1960/tps2115a-1960792.pdf?src-supplier=Digi-Key; ComponentLink2Description: https://datasheet.ciiva.com/1960/tps2115a-1960792.pdf?src-supplier=Digi-Key; ComponentLink3URL: https://datasheet.ciiva.com/3232/tps2115a-3232536.pdf?src-supplier=Avnet; ComponentLink3Description: https://datasheet.ciiva.com/3232/tps2115a-3232536.pdf?src-supplier=Avnet; ComponentLink4URL: https://datasheet.ciiva.com/1960/tps2115a-1960793.pdf?src-supplier=Digi-Key; ComponentLink4Description: https://datasheet.ciiva.com/1960/tps2115a-1960793.pdf?src-supplier=Digi-Key; ComponentLink5URL: https://datasheet.ciiva.com/1960/tps2115a-1960794.pdf?src-supplier=Digi-Key; ComponentLink5Description: https://datasheet.ciiva.com/1960/tps2115a-1960794.pdf?src-supplier=Digi-Key
footprint *SON-8_TPS2115(Primary)
pins: 1 STAT (io), 2 D0 (io), 3 D1 (io), 4 ILIM (io), 5 GND (io), 6 IN2 (io), 7 OUT (io), 8 IN1 (io), PAD GND (io)

## TPS2121RUXR
designator U?
PWR MGMT BATTERY MGMT; MF: Texas Instruments; MP: TPS2121RUXR; Package: VFQFN-12 Texas Instruments; SnapEDA_Link: https://www.snapeda.com/parts/TPS2121RUXR/Texas%20Instruments/view-part/?ref=snap; Availability: Unavailable; Price: None; Value: *
footprint *IC_TPS2121RUXR_TPS2121RUXR(Primary)
pins: 1 OUT (out), 2 IN2 (in), 3 CP2 (in), 4 OV2 (in), 5 OV1 (in), 6 PR1 (in), 7 IN1 (in), 8 OUT, 9 ST (out), 10 ILIM, 11 SS, 12 GND (power)

## TPS3106K33DBVR
designator U?
Ultra Low-Supply Current/Supply-Voltage Supervisory Circuits 6-SOT-23 -40 to 85; MF: Texas Instruments; MP: TPS3106K33DBVR; Package: SOT-23-6 Texas Instruments; Price: None; Availability: Unavailable; SnapEDA_Link: https://www.snapeda.com/parts/TPS3106K33DBVR/Texas%20Instruments/view-part/?ref=snap; Value: *
footprint *SOT95P280X145-6N
pins: 1 ~{RESET} (out), 2 GND, 3 ~{MR} (in), 4 PFI (in), 5 ~{PFO}, 6 VDD (power)

## TS51111-M22WCSR
designator U?
Wireless Charging ICs; Manufacturer 1: Semtech; Operating Supply Current: 20uA; Supplier 1: Digi-Key; Manufacturer Part Number 1: TS51111-M22WCSR; Stock 1: 12; Pricing 1: 1=5,40000, 10=4,85400, 25=4,58880, 100=3,97680, 250=3,77288, 500=3,38540, 1000=2,85516 (USD); RoHS: Yes; Mount: Surface Mount; Min Operating Temperature: -40°C; Max Operating Temperature: 85°C; Packaging: Tape and Reel; ComponentLink1URL: http://www.mouser.com/ds/2/761/down-767057.pdf?src-supplier=Mouser; ComponentLink1Description: http://www.mouser.com/ds/2/761/down-767057.pdf?src-supplier=Mouser; ComponentLink2URL: https://media.digikey.com/pdf/Data%20Sheets/Semtech%20PDFs/TS51111.pdf?src-supplier=Digi-Key; ComponentLink2Description: https://media.digikey.com/pdf/Data%20Sheets/Semtech%20PDFs/TS51111.pdf?src-supplier=Digi-Key; ComponentLink3URL: http://www.semtech.com/images/datasheet/ts51111.pdf?src-supplier=Digi-Key; ComponentLink3Description: http://www.semtech.com/images/datasheet/ts51111.pdf?src-supplier=Digi-Key; Supplier 2: Mouser; Manufacturer 2: Semtech; Manufacturer Part Number 2: TS51111-M22WCSR; Stock 2: 3164; Pricing 2: 1=5,81000, 10=4,69000, 50=4,69000, 100=4,17000, 250=3,86000, 500=3,36000, 1000=2,83000, 3300=2,69000, 6600=2,59000, 9900=2,43000, 10000=2,69000 (USD); Supplier Part Number 1: TS51111-M22WCSRCT-ND; Supplier Part Number 2: 947-TS51111-M22WCSR
footprint BGA45C40P5X9_218X380X60
pins: A1 SCL, A2 AMUX, A3 AGND, A4 MOD1, A5 MOD2, B1 SDA, B2 VREF, B3 PACKN, B4 USB, B5 EN_MOD, C1 VCORE, C2 THERM, C3 UART, C4 TXD, C5 PACKS, D1 BST1, D2 OVP, D3 RXD, D4 PACKP_1, D5 PACKP_2, E1 BST2, E2 PDC_1, E3 PDC_2, E4 PDC_3, E5 PDC_4, F1 VAC2_1, F2 VAC2_2, F3 VAC2_3, F4 VAC1_1, F5 VAC1_2, G1 VACDET, G2 PGND_1, G3 PGND_2, G4 PGND_3, G5 PGND_4, H1 VAC2_4, H2 VAC2_5, H3 VAC2_6, H4 VAC1_3, H5 VAC1_4, J1 PDC_5, J2 PDC_6, J3 PDC_7, J4 PDC_8, J5 PDC_9

## U.FL-R-SMT-1(01)
designator J?
Receptacle, Ultra Miniature Coaxial, Male Pin, 50 ohm, SMT; Manufacturer 1: Hirose; Body Material: Bronze; Body Plating: Silver; Dielectric Material: Polymer; Impedance: 50R; Connector Type: Male Pin,Receptacle; Max Frequency: 6GHz; ComponentLink1Description: Datasheet URL; ComponentLink1URL: https://www.hirose.com/product/en/download_file/key_name/U.FL%2DR%2DSMT%2D1%2801%29/category/Drawing%20(2D)/doc_file_id/37625/?file_category_id=6&item_id=03310472201&is_series=; Supplier 1: Mouser; Manufacturer Part Number 1: U.FL-R-SMT-1(01); Stock 1: 6500; Pricing 1: 100=0,96800, 200=0,88000, 500=0,79200, 1000=0,70400, 2000=0,63800, 5000=0,61600, 10000=0,57300 (USD); RoHS: Yes; Mount: Surface Mount; Contact Plating: Gold; Contact Material: Bronze,Brass; Housing Color: Silver; Min Operating Temperature: -40°C; Max Operating Temperature: 90°C; Termination: Solder; Orientation: Vertical; Package Quantity: 100; Packaging: Bulk; Fastening Type: Snap; Length: 3.1mm; Depth: 3mm; Radiation Hardening: No; Lead Free: Lead Free; ComponentLink2URL: https://datasheet.ciiva.com/26945/getdatasheetpartid-475239-26945414.pdf?src-supplier=Verical; ComponentLink2Description: https://datasheet.ciiva.com/26945/getdatasheetpartid-475239-26945414.pdf?src-supplier=Verical; Supplier Part Number 1: 798-UFLRSMT101
footprint CONN_UFL-R-SMT-1 (Hirose recommended land pattern http://www.hirose.co.jp/cataloge_hp/e32119372.pdf 2009.2)
pins: 1, 2, 3